# Altium schematic symbol library ST-STM32L433R- X.SchLib: 1 symbol
Pins are listed as number, name and electrical type; pins without a type are passive.

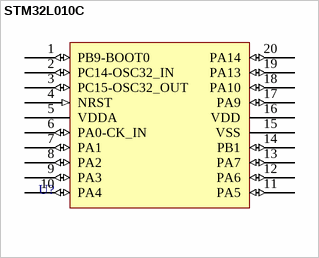
[diagram p0: symbol STM32L010C]

## STM32L010C
designator U?
pins: 1 PB9-BOOT0 (io), 2 PC14-OSC32_IN (io), 3 PC15-OSC32_OUT (io), 4 NRST (in), 5 VDDA (power), 6 PA0-CK_IN (io), 7 PA1 (io), 8 PA2 (io), 9 PA3 (io), 10 PA4 (io), 11 PA5 (io), 12 PA6 (io), 13 PA7 (io), 14 PB1 (io), 15 VSS (power), 16 VDD (power), 17 PA9 (io), 18 PA10 (io), 19 PA13 (io), 20 PA14 (io)